# EAGLE library part MCP2515* (library @Club_Microchip_divers-)
MCP2515 Standalone CAN-Controller by Microchip Eagle-Lib. by MartinThomas
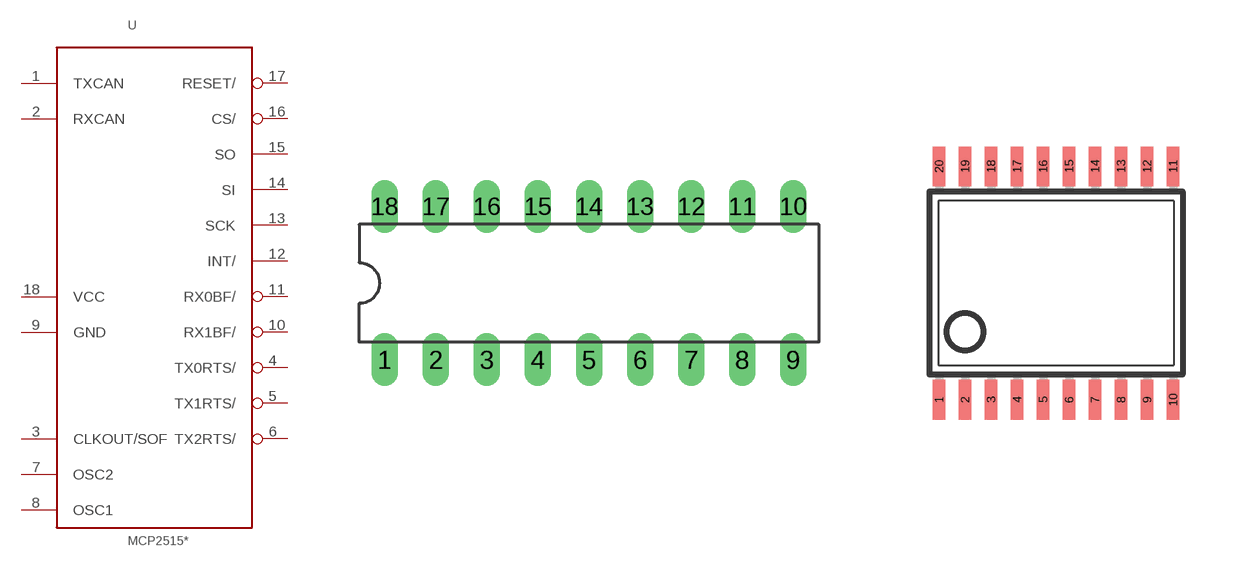
[diagram p56: symbol with the pads of DIL18; footprints DIL18, TSSOP20]

Designator prefix -

## MCP2515DIL  [DIL18]
1  TXCAN  out
2  RXCAN  in
3  CLKOUT/SOF
4  TX0RTS/
5  TX1RTS/
6  TX2RTS/
7  OSC2
8  OSC1
9  GND  sup
10  RX1BF/
11  RX0BF/
12  INT/  out
13  SCK  in
14  SI  in
15  SO  out
16  CS/  in
17  RESET/  in
18  VCC  pwr

## MCP2515TSOP  [TSSOP20]
1  TXCAN  out
2  RXCAN  in
3  CLKOUT/SOF
4  TX0RTS/
5  TX1RTS/
7  TX2RTS/
8  OSC2
9  OSC1
10  GND  sup
11  RX1BF/
12  RX0BF/
13  INT/  out
14  SCK  in
16  SI  in
17  SO  out
18  CS/  in
19  RESET/  in
20  VCC  pwr

## MCP2515SO  [SO18L]
Pads as for DIL18

## Footprint DIL18 (pad centres in mm)
Dual In Line Package
drill 0.813 long: 1 -10.16,-3.81; 2 -7.62,-3.81; 3 -5.08,-3.81; 4 -2.54,-3.81; 5 0,-3.81; 6 2.54,-3.81; 7 5.08,-3.81; 8 7.62,-3.81; 9 10.16,-3.81; 10 10.16,3.81; 11 7.62,3.81; 12 5.08,3.81; 13 2.54,3.81; 14 0,3.81; 15 -2.54,3.81; 16 -5.08,3.81; 17 -7.62,3.81; 18 -10.16,3.81

## Footprint TSSOP20 (pad centres in mm)
Thin Shrink Small Outline Plastic 20 MAX3223-MAX3243.pdf
smd 0.305 x 0.991: 1 -2.925,-2.918; 2 -2.275,-2.918; 3 -1.625,-2.918; 4 -0.975,-2.918; 5 -0.325,-2.918; 6 0.325,-2.918; 7 0.975,-2.918; 8 1.625,-2.918; 9 2.275,-2.918; 10 2.925,-2.918; 11 2.925,2.918; 12 2.275,2.918; 13 1.625,2.918; 14 0.975,2.918; 15 0.325,2.918; 16 -0.325,2.918; 17 -0.975,2.918; 18 -1.625,2.918; 19 -2.275,2.918; 20 -2.925,2.918

## Footprint SO18L (pad centres in mm)
Small Outline Package
smd 0.66 x 2.032: 1 -5.08,-4.902; 2 -3.81,-4.902; 3 -2.54,-4.902; 4 -1.27,-4.902; 5 0,-4.902; 6 1.27,-4.902; 7 2.54,-4.902; 8 3.81,-4.902; 9 5.08,-4.902; 10 5.08,4.902; 11 3.81,4.902; 12 2.54,4.902; 13 1.27,4.902; 14 0,4.902; 15 -1.27,4.902; 16 -2.54,4.902; 17 -3.81,4.902; 18 -5.08,4.902